# EAGLE library part ADM3053 (library ADM3053)
Signal and Power Isolated CAN Transceiver Analog Devices - Signal and Power Isolated CAN Transceiver with Integrated Isolated DC-to-DC Converter
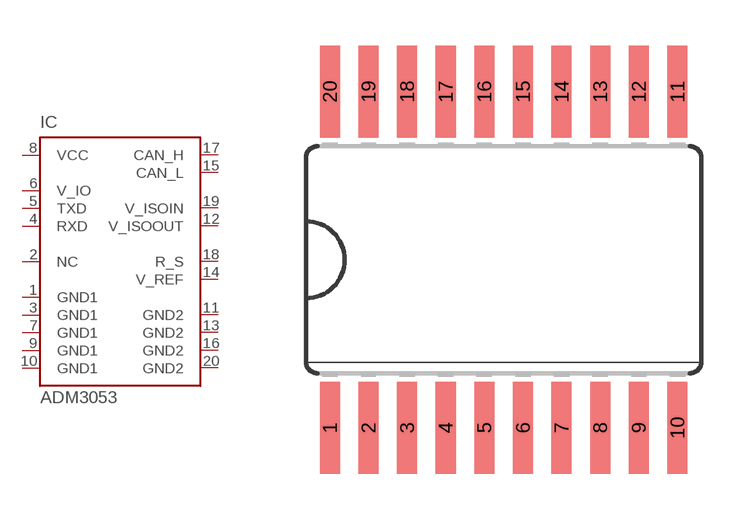
[diagram p0: symbol with the pads of SO20W; footprint SO20W]

Designator prefix IC

## ADM3053M  [SO20W]
1  GND1  pwr
2  NC  nc
3  GND1  pwr
4  RXD  out
5  TXD  in
6  V_IO  pwr
7  GND1  pwr
8  VCC  pwr
9  GND1  pwr
10  GND1  pwr
11  GND2  pwr
12  V_ISOOUT  out
13  GND2  pwr
14  V_REF  out
15  CAN_L
16  GND2  pwr
17  CAN_H
18  R_S  pas
19  V_ISOIN  in
20  GND2  pwr

## Footprint SO20W (pad centres in mm)
Wide Small Outline package 300 mil
smd 0.66 x 3.032: 1 -5.715,-5.529; 2 -4.445,-5.529; 3 -3.175,-5.529; 4 -1.905,-5.529; 5 -0.635,-5.529; 6 0.635,-5.529; 7 1.905,-5.529; 8 3.175,-5.529; 9 4.445,-5.529; 10 5.715,-5.529; 11 5.715,5.529; 12 4.445,5.529; 13 3.175,5.529; 14 1.905,5.529; 15 0.635,5.529; 16 -0.635,5.529; 17 -1.905,5.529; 18 -3.175,5.529; 19 -4.445,5.529; 20 -5.715,5.529